# Altium footprint library PCB1.PcbLib: 27 footprints (part 1 of 2)
Each footprint in its own frame and in the unit in brackets; x right, y up, seen from the top. Pads: shape width x height; smd on the part's side, far side on the other; paste and mask are expansions set on the pad; w line width, h text height; cw(c..) or ccw(c..) is an arc to the next point about the centre after c.
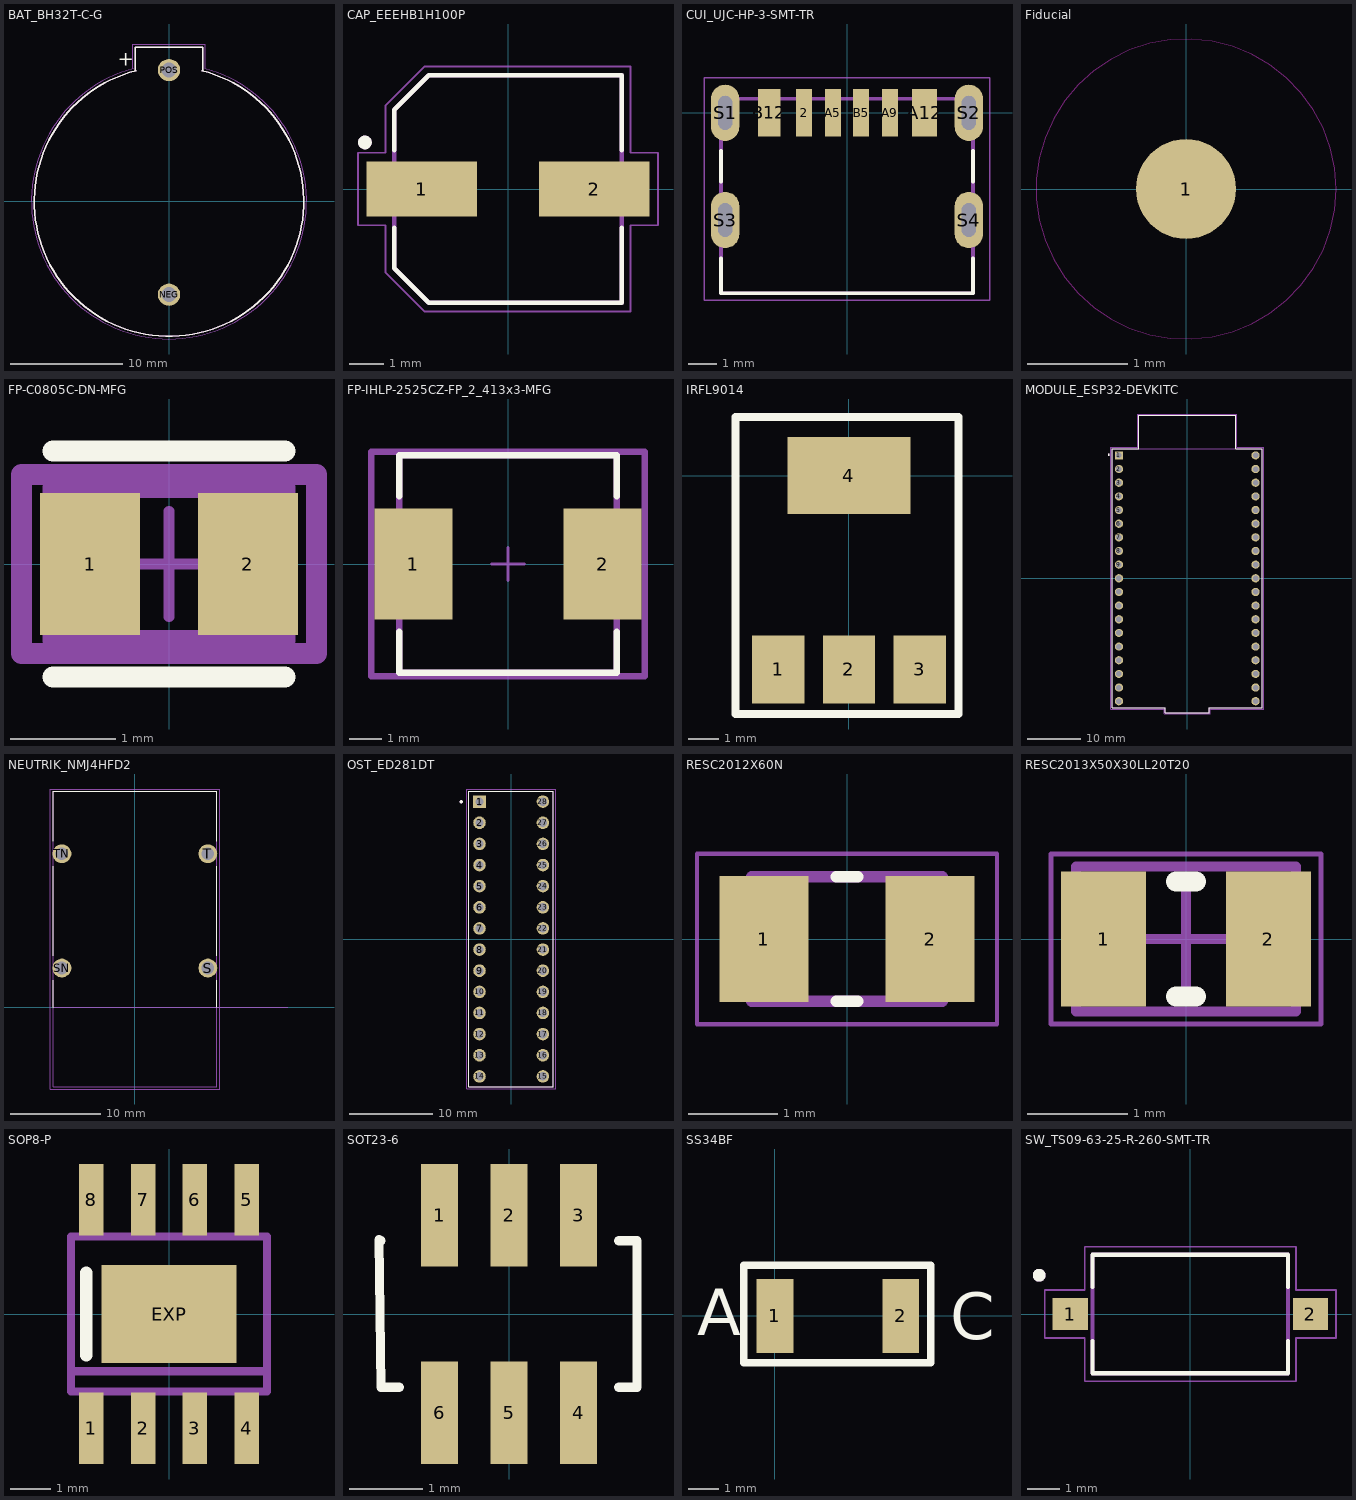
[diagram p0: the footprints below, top view; thin cyan lines are the x and y axes]

## BAT_BH32T-C-G [mil]
pads (2):
  round 78 hole 52: NEG(0,-326.77) POS(0,460.63)
Top Overlay:
  lines w5: -118.11,457.68 -118.11,541.34 118.11,541.34 118.11,457.68 ; -114.32,458.64 ccw(c0,0.11) 114.32,458.64
  text "+" at -180.31,519.68 h50
Mechanical 13:
  lines w5: -118.11,457.68 -118.11,541.34 118.11,541.34 118.11,457.68 ; -114.32,458.64 ccw(c0,0.11) 114.32,458.64
Mechanical 15:
  lines w1.97: -127.95,465 -127.95,551.18 127.95,551.18 127.95,465 ; -124.82,465.85 ccw(c0,0.01) 124.82,465.85

## CAP_EEEHB1H100P [mm]
pads (2):
  rect 3.2x1.6 smd: 1(-2.5,0) 2(2.5,0)
Top Overlay:
  circle w0.2: c-4.15,1.35 r0.1
  lines w0.127: -3.3,-1.12 -3.3,-2.3 -2.3,-3.3 3.3,-3.3 3.3,-1.12 ; -3.3,1.12 -3.3,2.3 -2.3,3.3 3.3,3.3 3.3,1.12
Mechanical 13:
  circle w0.2: c-4.15,1.35 r0.1
  lines w0.127: -3.3,-2.3 -3.3,2.3 -2.3,3.3 3.3,3.3 3.3,-3.3 -2.3,-3.3 -3.3,-2.3
Mechanical 15:
  lines w0.05: -4.35,-1.05 -3.55,-1.05 -3.55,-2.425 -2.425,-3.55 3.55,-3.55 3.55,-1.05 4.35,-1.05 4.35,1.05 3.55,1.05 3.55,3.55 -2.425,3.55 -3.55,2.425 -3.55,1.05 -4.35,1.05 -4.35,-1.05
3D body "step_temp.STEP": height 5.8, standoff 0, extent -3.65,-3.3 3.65,3.3

## CUI_UJC-HP-3-SMT-TR [mm]
pads (10):
  rect 0.57x1.7 smd: 2(-1.52,0.005) A5(-0.5,0.005) A9(1.52,0.005) B5(0.5,0.005)
  rect 0.9x1.7 smd: A12(2.75,0.005)
  rect 0.8x1.7 smd: B12(-2.75,0.005)
  oval 1x2 hole 0.5 slot 1.2 at 90 deg: S1(-4.32,0) S2(4.32,0) S3(-4.32,-3.8) S4(4.32,-3.8)
Top Overlay:
  lines w0.127: -4.47,-5.15 -4.47,-6.4 4.47,-6.4 4.47,-5.15 ; -4.47,-2.45 -4.47,-1.35 ; 4.47,-2.45 4.47,-1.35
Mechanical 13:
  lines w0.127: -4.47,-6.4 -4.47,0.5 4.47,0.5 4.47,-6.4 -4.47,-6.4
Mechanical 15:
  lines w0.05: -5.07,-6.65 -5.07,1.25 5.07,1.25 5.07,-6.65 -5.07,-6.65

## Fiducial [mm]
pads (1):
  round 1 smd paste-1 mask+1: 1(0,0)
Top Layer keep-out:
  circle w0.01: c0,0 r1.5
3D body: height -0.1, standoff -0.2, extent -0.5,-0.5 0.5,0.5

## FP-C0805C-DN-MFG [mm]
pads (2):
  rect 0.95x1.35 smd paste+0 mask+0: 1(-0.75,0) 2(0.75,0)
Top Overlay:
  lines w0.2: -1.1,-1.075 1.1,-1.075 ; -1.1,1.075 1.1,1.075
Top 3D Body:
  lines w0.2: -1.1,-0.725 1.1,-0.725 1.1,0.725 -1.1,0.725 -1.1,-0.725
Top Courtyard:
  lines w0.2: -1.4,-0.85 1.4,-0.85 1.4,0.85 -1.4,0.85 -1.4,-0.85
Top Assembly:
  lines w0.2: -1.4,-0.85 1.4,-0.85 1.4,0.85 -1.4,0.85 -1.4,-0.85
  text ".Designator" at 0,0.188 h1
Top Component Center:
  lines w0.1: -0.5,0 0.5,0 ; 0,-0.5 0,0.5
3D body "Cap_KEMET_C0805C472J3HAC_eec.STEP": height 0.25, standoff 0, extent -1.4,-0.85 1.4,0.85

## FP-IHLP-2525CZ-FP_2_413x3-MFG [mil]
pads (2):
  rect 95x135 smd paste+0 mask+0: 1(-115,0) 2(115,0)
Top Overlay:
  lines w7.87: -132.36,-82.26 -132.36,-132.36 132.36,-132.36 132.36,-82.26 ; -132.36,82.26 -132.36,132.36 132.36,132.36 132.36,82.26
Top 3D Body:
  lines w7.87: -132.36,-132.36 -132.36,132.36 132.36,132.36 132.36,-132.36 -132.36,-132.36
Top Courtyard:
  lines w7.87: -166.44,-136.3 -166.44,136.3 166.44,136.3 166.44,-136.3 -166.44,-136.3
Top Assembly:
  lines w7.87: -166.44,-136.3 -166.44,136.3 166.44,136.3 166.44,-136.3 -166.44,-136.3
  text ".Designator" at 0,7.39 h39.37
Top Component Center:
  lines w3.94: -19.68,0 19.68,0 ; 0,-19.68 0,19.68
3D body "Ind_Vishay_IHLP2525CZER1R5M5A_eec.STEP": height 10, standoff 0, extent -166.44,-136.3 166.44,136.3

## IRFL9014 [mm]
pads (4):
  rect 1.7x2.2 smd mask+0.102: 1(-2.3,-6.3) 2(0,-6.3) 3(2.3,-6.3)
  rect 4x2.5 smd: 4(0,0)
Top Overlay:
  lines w0.254: -3.683,-7.747 -3.683,1.905 3.556,1.905 3.556,-7.747 -3.683,-7.747
3D body "IRFL9014.STEP": height 0, standoff -1.8, extent -3.377,-6.548 3.123,0.452

## MODULE_ESP32-DEVKITC [mm]
pads (38):
  rect 1.53x1.53 hole 1.02: 1(-12.7,22.85)
  round 1.53 hole 1.02: 2(-12.7,20.31) 3(-12.7,17.77) 4(-12.7,15.23) 5(-12.7,12.69) 6(-12.7,10.15) 7(-12.7,7.61) 8(-12.7,5.07) 9(-12.7,2.53) 10(-12.7,-0.01) 11(-12.7,-2.55) 12(-12.7,-5.09) 13(-12.7,-7.63) 14(-12.7,-10.17) 15(-12.7,-12.71) 16(-12.7,-15.25) 17(-12.7,-17.79) 18(-12.7,-20.33) 19(-12.7,-22.87) 20(12.7,-22.87) 21(12.7,-20.33) 22(12.7,-17.79) 23(12.7,-15.25) 24(12.7,-12.71) 25(12.7,-10.17) 26(12.7,-7.63) 27(12.7,-5.09) 28(12.7,-2.55) 29(12.7,-0.01) 30(12.7,2.53) 31(12.7,5.07) 32(12.7,7.61) 33(12.7,10.15) 34(12.7,12.69) 35(12.7,15.23) 36(12.7,17.77) 37(12.7,20.31) 38(12.7,22.85)
Top Overlay:
  circle w0.2: c-14.57,22.97 r0.1
  lines w0.127: -13.95,-24.1 -4.07,-24.1 -4.07,-25 4.06,-25 4.06,-24.1 13.95,-24.1 13.95,24.1 9,24.1 9,30.3 -9,30.3 -9,24.1 -13.95,24.1 -13.95,-24.1
Mechanical 13:
  circle w0.2: c-14.57,22.97 r0.1
  lines w0.127: -9,24.1 -9,30.3 9,30.3 9,24.1 ; -9,24.1 -13.95,24.1 -13.95,-24.1 -4.07,-24.1 -4.07,-25 4.06,-25 4.06,-24.1 13.95,-24.1 13.95,24.1 9,24.1 ; -9,24.1 9,24.1
Mechanical 15:
  lines w0.05: -14.2,-24.38 -4.32,-24.38 -4.32,-25.25 4.31,-25.25 4.31,-24.38 14.2,-24.38 14.2,24.38 9.25,24.38 9.25,30.55 -9.25,30.55 -9.25,24.38 -14.2,24.38 -14.2,-24.38

## NEUTRIK_NMJ4HFD2 [mm]
height 15.84
pads (4):
  round 2.1 hole 1.4: S(8.115,4.35) SN(-8.115,4.35) T(8.115,17.05) TN(-8.115,17.05)
Top Overlay:
  lines w0.127: -9.1,0 -9.1,2.98 ; -9.1,5.72 -9.1,15.68 ; -9.1,18.42 -9.1,24 9.1,24 9.1,18.42 ; 9.1,0 9.1,2.98 ; 9.1,5.72 9.1,15.68
Mechanical 13:
  lines w0.127: 17,0 -9.1,0 ; -9.1,0 -9.1,24 9.1,24 9.1,0 9.1,-8.85 -9.1,-8.85 -9.1,0
  text "PCB EDGE" at 9.5,0.25 h1.02
Mechanical 15:
  lines w0.05: -9.415,-9.1 9.415,-9.1 9.415,24.25 -9.415,24.25 -9.415,-9.1
3D body "step_temp.STEP": height 17.01, standoff -4, extent -9.1,-8.825 9.1,24.025

## OST_ED281DT [mm]
pads (28):
  rect 1.508x1.508 / inner round 1.508 / far side rect 1.508x1.508 hole 1: 1(-3.81,16.51)
  round 1.508 hole 1: 2(-3.81,13.97) 3(-3.81,11.43) 4(-3.81,8.89) 5(-3.81,6.35) 6(-3.81,3.81) 7(-3.81,1.27) 8(-3.81,-1.27) 9(-3.81,-3.81) 10(-3.81,-6.35) 11(-3.81,-8.89) 12(-3.81,-11.43) 13(-3.81,-13.97) 14(-3.81,-16.51) 15(3.81,-16.51) 16(3.81,-13.97) 17(3.81,-11.43) 18(3.81,-8.89) 19(3.81,-6.35) 20(3.81,-3.81) 21(3.81,-1.27) 22(3.81,1.27) 23(3.81,3.81) 24(3.81,6.35) 25(3.81,8.89) 26(3.81,11.43) 27(3.81,13.97) 28(3.81,16.51)
Top Overlay:
  circle w0.2: c-6,16.5 r0.1
  lines w0.127: -5.08,-17.78 5.08,-17.78 5.08,17.78 -5.08,17.78 -5.08,-17.78
Mechanical 13:
  circle w0.2: c-6,16.5 r0.1
  lines w0.127: -5.08,-17.78 5.08,-17.78 5.08,17.78 -5.08,17.78 -5.08,-17.78
Mechanical 15:
  lines w0.05: -5.33,-18.03 5.33,-18.03 5.33,18.03 -5.33,18.03 -5.33,-18.03
3D body "step_temp.STEP": height 8.7, standoff 0, extent -4.953,-17.907 5.207,17.653

## RESC2012X60N [mm]
pads (2):
  rect 1x1.42 smd: 1(-0.935,0) 2(0.935,0)
Top Overlay:
  lines w0.127: -0.12,-0.7 0.12,-0.7 ; -0.12,0.7 0.12,0.7
Mechanical 13:
  lines w0.127: -1.07,-0.7 -1.07,0.7 1.07,0.7 1.07,-0.7 -1.07,-0.7
Mechanical 15:
  lines w0.05: -1.685,-0.96 -1.685,0.96 1.685,0.96 1.685,-0.96 -1.685,-0.96
3D body "step_temp.STEP": height 0.6, standoff 0, extent -1,-0.625 1,0.625

## RESC2013X50X30LL20T20 [mm] "Chip Resistor, 2-Leads, Body 2.00x1.25mm, IPC High Density"
height 0.5
pads (2):
  rect 0.85x1.35 smd: 1(-0.825,0) 2(0.825,0)
Top Overlay:
  lines w0.2: -0.1,-0.575 0.1,-0.575 ; -0.1,0.575 0.1,0.575
Mechanical 13:
  lines w0.1: -1.1,-0.725 1.1,-0.725 1.1,0.725 -1.1,0.725 -1.1,-0.725
Mechanical 15:
  lines w0.05: -1.35,-0.85 1.35,-0.85 1.35,0.85 -1.35,0.85 -1.35,-0.85
  lines w0.1: -0.5,0 0.5,0 ; 0,-0.5 0,0.5
3D body: height 0.5, standoff 0, extent 0.8,-0.725 1.1,0.725
3D body: height 0.5, standoff 0, extent -1.1,-0.725 -0.8,0.725
3D body: height 0.5, standoff 0, extent -0.8,-0.725 0.8,0.725

## SOP8-P [mm]
pads (9):
  rect 0.6x1.75 smd: 1(-1.905,-2.8) 2(-0.635,-2.8) 3(0.635,-2.8) 4(1.905,-2.8) 5(1.905,2.8) 6(0.635,2.8) 7(-0.635,2.8) 8(-1.905,2.8)
  rect 3.3x2.41 smd paste-3: EXP(0,0)
Top Overlay:
  lines w0.305: -2.032,-1.016 -2.032,1.016
Top Paste:
  region: 0.3,-0.3 -0.3,-0.3 -0.3,0.3 0.3,0.3
Mechanical 13:
  region: -1.66,2 -2.15,2 -2.15,3.1 -1.66,3.1
  region: -0.39,2 -0.88,2 -0.88,3.1 -0.39,3.1
  region: 0.88,2 0.39,2 0.39,3.1 0.88,3.1
  region: 2.15,-3.1 1.66,-3.1 1.66,-2 2.15,-2
  region: 0.88,-3.1 0.39,-3.1 0.39,-2 0.88,-2
  region: -0.39,-3.1 -0.88,-3.1 -0.88,-2 -0.39,-2
  region: -1.66,-3.1 -2.15,-3.1 -2.15,-2 -1.66,-2
  lines w0.203: -2.4,-1.4 2.4,-1.4 ; -2.4,-1.4 -2.4,1.9 2.4,1.9 2.4,-1.4 ; -2.4,-1.4 -2.4,-1.9 2.4,-1.9 2.4,-1.4
Mechanical 14:
  region: 2.15,2 1.66,2 1.66,3.1 2.15,3.1

## SOT23-6 [mm]
pads (6):
  rect 0.5x1.4 smd: 1(-0.95,1.351) 2(0,1.351) 3(0.95,1.351) 4(0.95,-1.35) 5(0,-1.35) 6(-0.95,-1.35)
Top Overlay:
  lines w0.127: -1.5,-1 -1.75,-1 -1.778,1.016 ; 1.5,-1 1.75,-1 1.75,1 1.5,1 ; -1.778,1.016 -1.75,1 -1.778,1.016

## SS34BF [mm]
pads (2):
  rect 1.2x2.4 smd: 1(0,0) 2(4.1,0)
Top Overlay:
  lines w0.254: -1.016,-1.524 5.08,-1.524 5.08,1.651 -1.016,1.651 -1.016,-1.524
  text "A" at -2.54,-0.635 h1.52
  text "C" at 5.715,-0.762 h1.52

## SW_TS09-63-25-R-260-SMT-TR [mm]
height 2.5
pads (2):
  rect 1.1x1 smd: 1(-3.75,0) 2(3.75,0)
Top Overlay:
  circle w0.2: c-4.72,1.21 r0.1
  lines w0.127: -3.05,-0.85 -3.05,-1.85 3.05,-1.85 3.05,-0.85 ; -3.05,0.85 -3.05,1.85 3.05,1.85 3.05,0.85
Mechanical 13:
  circle w0.2: c-4.72,1.21 r0.1
  lines w0.127: -3.05,-1.85 3.05,-1.85 3.05,1.85 -3.05,1.85 -3.05,-1.85
Mechanical 15:
  lines w0.05: -4.55,-0.75 -4.55,0.75 -3.3,0.75 -3.3,2.1 3.3,2.1 3.3,0.75 4.55,0.75 4.55,-0.75 3.3,-0.75 3.3,-2.1 -3.3,-2.1 -3.3,-0.75 -4.55,-0.75